# EAGLE library part IIM-20670 (library IIM-20670)
IMUs - Inertial Measurement Units 6-axis Industrial IMU, Motion Tracking, SmartIndustrial Source: Datasheet <https://invensense.tdk.com/download-pdf/iim-20670-product-brief/>
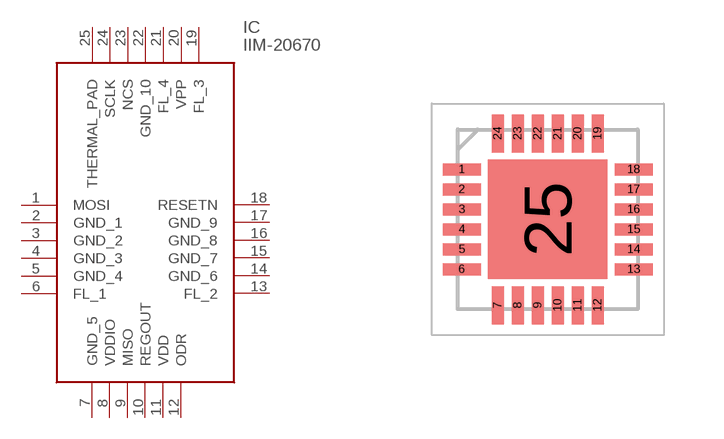
[diagram p0: symbol with the pads of QFN50P450X450X115-25N; footprint QFN50P450X450X115-25N]

Designator prefix IC

## IIM-20670 (Description: IMUs - Inertial Measurement Units 6-axis Industrial IMU, Motion Tracking, SmartIndustrial; Height: 1.15mm; Manufacturer_Name: TDK; Manufacturer_Part_Number: IIM-20670)  [QFN50P450X450X115-25N]
1  MOSI
2  GND_1
3  GND_2
4  GND_3
5  GND_4
6  FL_1
7  GND_5
8  VDDIO
9  MISO
10  REGOUT
11  VDD
12  ODR
13  FL_2
14  GND_6
15  GND_7
16  GND_8
17  GND_9
18  RESETN
19  FL_3
20  VPP
21  FL_4
22  GND_10
23  NCS
24  SCLK
25  THERMAL_PAD

## Footprint QFN50P450X450X115-25N (pad centres in mm)
IIM-20670
smd 0.95 x 0.3: 1 -2.15,1.25; 2 -2.15,0.75; 3 -2.15,0.25; 4 -2.15,-0.25; 5 -2.15,-0.75; 6 -2.15,-1.25; 13 2.15,-1.25; 14 2.15,-0.75; 15 2.15,-0.25; 16 2.15,0.25; 17 2.15,0.75; 18 2.15,1.25
smd 0.3 x 0.95: 7 -1.25,-2.15; 8 -0.75,-2.15; 9 -0.25,-2.15; 10 0.25,-2.15; 11 0.75,-2.15; 12 1.25,-2.15; 19 1.25,2.15; 20 0.75,2.15; 21 0.25,2.15; 22 -0.25,2.15; 23 -0.75,2.15; 24 -1.25,2.15
smd 2.99 x 2.99: 25 0,0